# EAGLE library part SA575 (library QuantumOptics)
SA575, Audio Compander, On Semi. Contains one expander, one compressor/expander/AGC and two opamps. http://www.onsemi.com/PowerSolutions/product.do?id=SA575
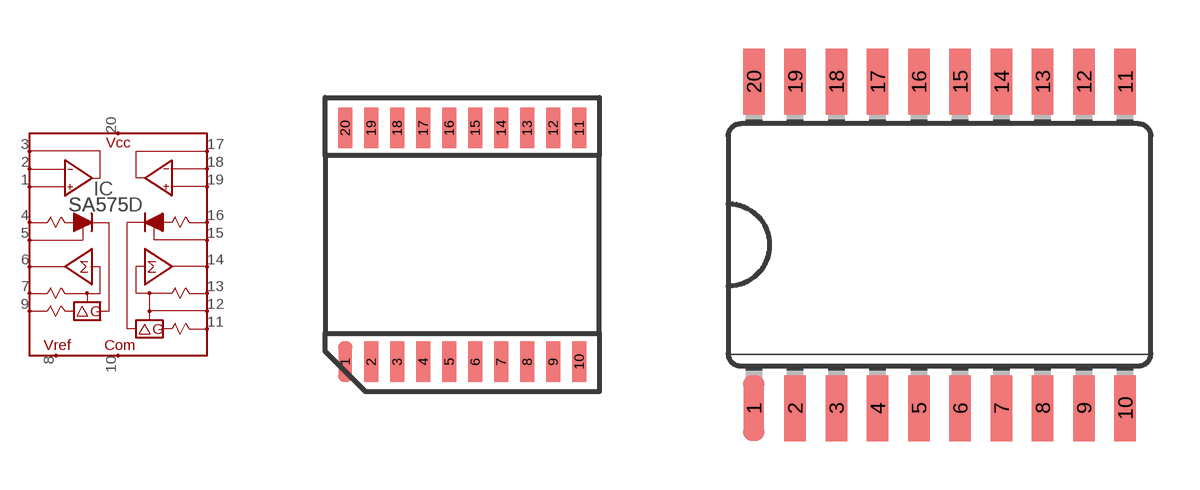
[diagram p78: symbol with the pads of TSSOP-20; footprints TSSOP-20, SOIC-20W]

Designator prefix IC

## SA575DTB  [TSSOP-20]
1  AMP_IN+1  in
2  AMP_IN-1  in
3  AMP_OUT1  out
4  REC_IN1  in
5  CREC1  out
6  SUM_OUT1  out
7  COMP_IN1  in
8  VREF  out
9  GAIN_IN1  in
10  COM
11  GAIN_IN2  in
12  SUM2  in
13  COMP_IN2  in
14  SUM_OUT2  out
15  CREC2  out
16  REC_IN2  in
17  AMP_OUT2  out
18  AMP_IN-2  in
19  AMP_IN+2  in
20  VCC

## SA575D  [SOIC-20W]
Pads as for TSSOP-20

## SA575N  [DIL20]
Pads as for TSSOP-20

## Footprint TSSOP-20 (pad centres in mm)
TSSOP-20, pins 0.65mm c-c spacing, nominal 6.4mm rows.
smd 0.356 x 1.016: 1 0,-5.85; 2 0.65,-5.85; 3 1.3,-5.85; 4 1.95,-5.85; 5 2.6,-5.85; 6 3.25,-5.85; 7 3.9,-5.85; 8 4.55,-5.85; 9 5.2,-5.85; 10 5.85,-5.85; 11 5.85,0; 12 5.2,0; 13 4.55,0; 14 3.9,0; 15 3.25,0; 16 2.6,0; 17 1.95,0; 18 1.3,0; 19 0.65,0; 20 0,0

## Footprint SOIC-20W (pad centres in mm)
TSSOP-20, case 751D-05. This is the wide version, which is the more common.
smd 0.66 x 2.032: 1 -5.715,-5.029; 2 -4.445,-5.029; 3 -3.175,-5.029; 4 -1.905,-5.029; 5 -0.635,-5.029; 6 0.635,-5.029; 7 1.905,-5.029; 8 3.175,-5.029; 9 4.445,-5.029; 10 5.715,-5.029; 11 5.715,5.029; 12 4.445,5.029; 13 3.175,5.029; 14 1.905,5.029; 15 0.635,5.029; 16 -0.635,5.029; 17 -1.905,5.029; 18 -3.175,5.029; 19 -4.445,5.029; 20 -5.715,5.029

## Footprint DIL20 (pad centres in mm)
DIP-20, AKA DIL-20. Antique.
drill 0.813 pad 1.575 long: 1 -11.43,-3.81
drill 0.813 long: 2 -8.89,-3.81; 3 -6.35,-3.81; 4 -3.81,-3.81; 5 -1.27,-3.81; 6 1.27,-3.81; 7 3.81,-3.81; 8 6.35,-3.81; 9 8.89,-3.81; 10 11.43,-3.81; 11 11.43,3.81; 12 8.89,3.81; 13 6.35,3.81; 14 3.81,3.81; 15 1.27,3.81; 16 -1.27,3.81; 17 -3.81,3.81; 18 -6.35,3.81; 19 -8.89,3.81; 20 -11.43,3.81